# Altium footprint library HARWIN_S1751-46.PcbLib: 1 footprints
Each footprint in its own frame and in the unit in brackets; x right, y up, seen from the top. Pads: shape width x height; smd on the part's side, far side on the other; paste and mask are expansions set on the pad; w line width, h text height; cw(c..) or ccw(c..) is an arc to the next point about the centre after c.
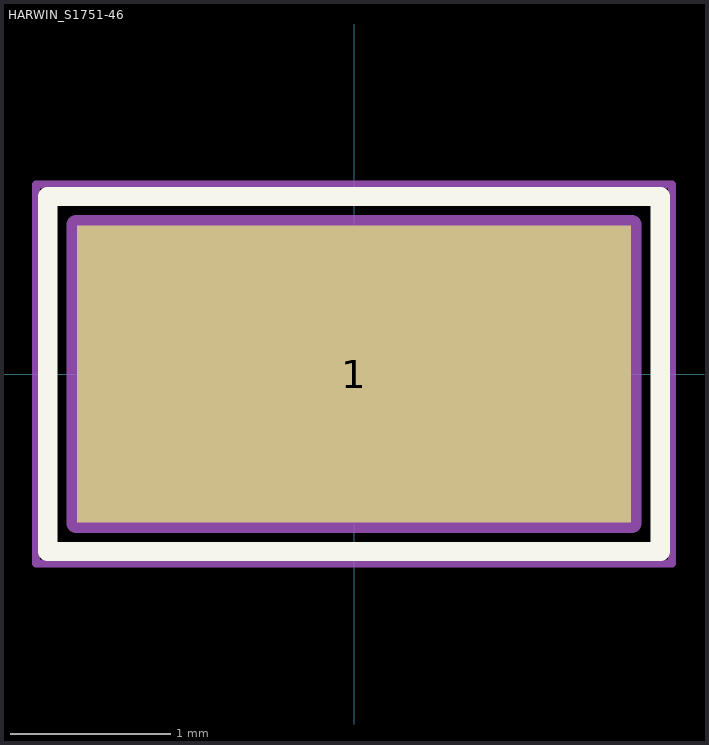
[diagram p0: the footprint, top view; thin cyan lines are the x and y axes]

## HARWIN_S1751-46 [mm]
pads (1):
  rect 3.45x1.85 smd: 1(0,0)
Top Overlay:
  lines w0.12: -1.905,-1.105 -1.905,1.105 1.905,1.105 1.905,-1.105 -1.905,-1.105
Mechanical 3:
  lines w0.12: -1.73,-0.93 -1.73,0.93 1.73,0.93 1.73,-0.93 -1.73,-0.93
Mechanical 5:
  lines w0.025: -1.725,-0.925 -1.725,0.925 1.725,0.925 1.725,-0.925 -1.725,-0.925
Mechanical 7:
  circle w0.05: c0,0 r0.25
  lines w0.05: -0.35,0 0.35,0 ; 0,-0.35 0,0.35 ; -1.98,-1.18 1.98,-1.18 1.98,1.18 -1.98,1.18 -1.98,-1.18
Mechanical 9:
  text "'.Designator'" at -5.23,-0.129 h1
3D body "HARWIN_S1751-46.STEP": height 0, standoff -0.04, extent -1.725,-0.925 1.725,0.925
3D body: height 2, standoff 0.05, extent -1.975,-1.175 1.975,1.175
3D body: height 1.04, standoff 0, extent -1.98,-1.18 1.98,1.18